# Altium schematic symbol library EEUFM1H560.SchLib: 1 symbol
Pins are listed as number, name and electrical type; pins without a type are passive.

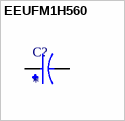
[diagram p0: symbol EEUFM1H560]

## EEUFM1H560
designator C?
Cap Aluminum Lytic 56uF 50V 20% (6 X 11.2mm) Radial 2.5mm 405mA 2000h 105C Bulk; MP: EEU-FM1H560; MF: Panasonic; Availability: In Stock; Purchase-URL: https://pricing.snapeda.com/search/part/EEU-FM1H560/?ref=eda; Package: RADIAL-2 Panasonic; Value: *; Check_prices: https://www.snapeda.com/parts/EEU-FM1H560/Panasonic/view-part/?ref=eda; SnapEDA_Link: https://www.snapeda.com/parts/EEU-FM1H560/Panasonic/view-part/?ref=snap; Price: None
footprint CAPPRD250W50D630H1120
pins: N, P